# Altium footprint library robot2.PcbLib: 6 footprints
Each footprint in its own frame and in the unit in brackets; x right, y up, seen from the top. Pads: shape width x height; smd on the part's side, far side on the other; paste and mask are expansions set on the pad; w line width, h text height; cw(c..) or ccw(c..) is an arc to the next point about the centre after c.
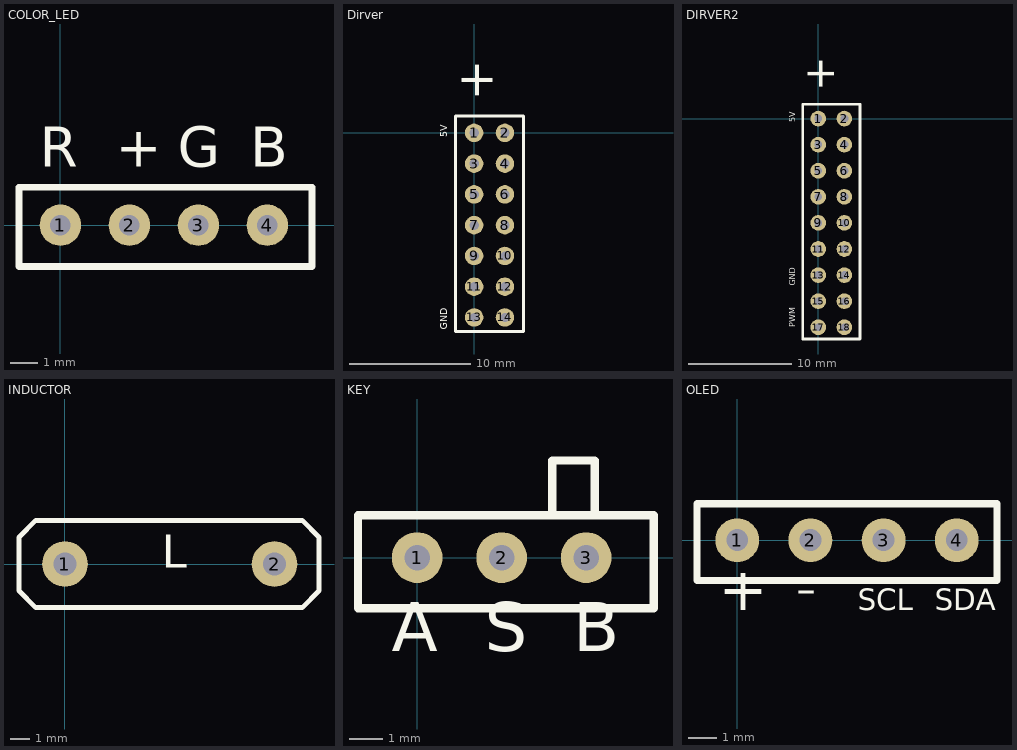
[diagram p0: the footprints below, top view; thin cyan lines are the x and y axes]

## COLOR_LED [mil]
pads (4):
  round 60 hole 30: 1(0,0) 2(100,0) 3(200,0) 4(300,0)
Top Overlay:
  lines w10: -60,-60 -60,55 365,55 365,-60 -60,-60
  text "R" at -30,65 h100
  text "G" at 170,65 h100
  text "B" at 275,65 h100
  text "+" at 80,65 h100

## Dirver [mil]
pads (14):
  round 60 hole 30: 1(0,0) 2(100,0) 3(0,-100) 4(100,-100) 5(0,-200) 6(100,-200) 7(0,-300) 8(100,-300) 9(0,-400) 10(100,-400) 11(0,-500) 12(100,-500) 13(0,-600) 14(100,-600)
Top Overlay:
  lines w10: -55,55 160,55 160,-645 -50,-645 -60,-645 -60,55 -45,55
  text "5V" at -80,-15 h39.37
  text "GND" at -80,-640 h39.37
  text "+" at 100,105 h200
  text "-" at 70,-670 h200

## DIRVER2 [mil]
pads (18):
  round 60 hole 30: 1(0,0) 2(100,0) 3(0,-100) 4(100,-100) 5(0,-200) 6(100,-200) 7(0,-300) 8(100,-300) 9(0,-400) 10(100,-400) 11(0,-500) 12(100,-500) 13(0,-600) 14(100,-600) 15(0,-700) 16(100,-700) 17(0,-800) 18(100,-800)
Top Overlay:
  lines w10: -55,55 160,55 160,-645 160,-845 -60,-845 -60,-645 -60,55 -45,55
  text "PWM" at -80,-800 h39.37
  text "-" at 65,-840 h200
  text "+" at 100,105 h200
  text "GND" at -80,-640 h39.37
  text "5V" at -80,-15 h39.37

## INDUCTOR [mm]
pads (2):
  round 2.4 hole 1.2: 1(0,0) 2(11,0)
Top Overlay:
  lines w0.254: -2.413,-1.397 -2.413,1.397 -1.524,2.286 12.446,2.286 13.335,1.397 13.335,-1.397 12.446,-2.286 12.192,-2.286 -1.524,-2.286 -2.413,-1.397
  text "L" at 5.08,-0.762 h3

## KEY [mil]
pads (3):
  round 60 hole 30: 1(0,0) 2(100,0) 3(200,0)
Top Overlay:
  lines w10: 160,50 160,115 210,115 210,55 ; -70,-60 280,-60 280,50 -70,50 -70,-60
  text "B" at 185,-130 h100
  text "S" at 80,-130 h100
  text "A" at -30,-130 h100

## OLED [mil]
pads (4):
  round 60 hole 30: 1(0,0) 2(100,0) 3(200,0) 4(300,0)
Top Overlay:
  lines w10: -55,-55 355,-55 355,50 -55,50 -55,-55
  text "SDA" at 270,-105 h50
  text "SCL" at 165,-105 h50
  text "-" at 80,-110 h100
  text "+" at -25,-115 h100